# Altium footprint library hx711foot.PcbLib: 1 footprints
Each footprint in its own frame and in the unit in brackets; x right, y up, seen from the top. Pads: shape width x height; smd on the part's side, far side on the other; paste and mask are expansions set on the pad; w line width, h text height; cw(c..) or ccw(c..) is an arc to the next point about the centre after c.
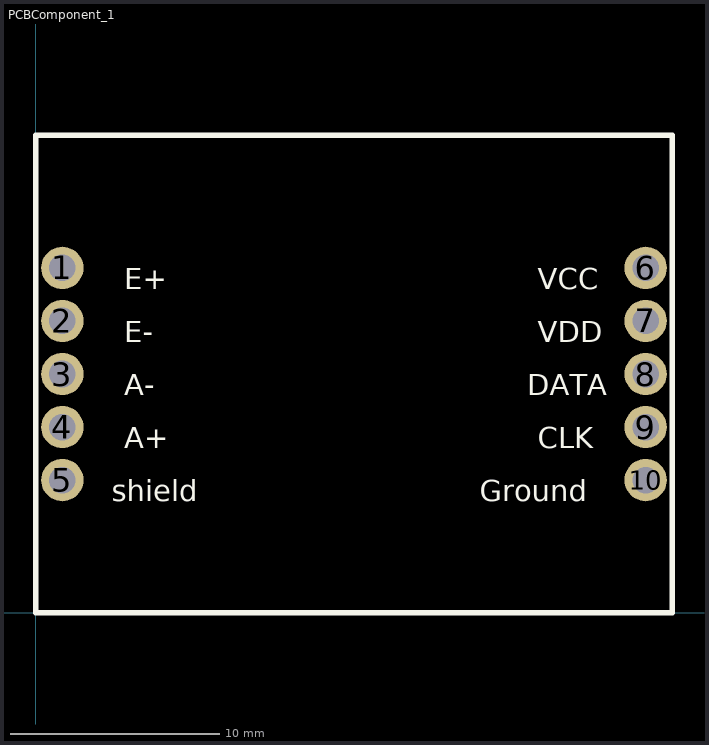
[diagram p0: the footprint, top view; thin cyan lines are the x and y axes]

## PCBComponent_1 [mil]
pads (10):
  round 80 hole 50 mask+2.5: 1(50,650) 2(50,550) 3(50,450) 4(50,350) 5(50,250) 6(1150,650) 7(1150,550) 8(1150,450) 9(1150,350) 10(1150,250)
Top Overlay:
  lines w10: 0,0 1200,0 1200,900 0,900 0,0
  text "Ground" at 836.7,210 h40
  text "CLK" at 946.68,310 h40
  text "DATA" at 926.69,410 h40
  text "VDD" at 946.68,510 h40
  text "VCC" at 946.68,610 h40
  text "E+" at 166.68,610 h40
  text "E-" at 166.68,510 h40
  text "A-" at 166.68,410 h40
  text "A+" at 166.68,310 h40
  text "shield" at 143.37,210 h40